# EAGLE library part MABSA (library con-hirschmann)
Dual SWITCH
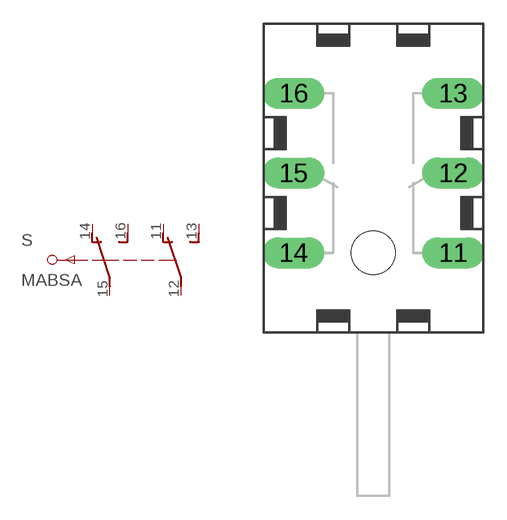
[diagram p10: symbol with the pads of MABSA; footprint MABSA]

Designator prefix S

## MABSA (OC_FARNELL: unknown; OC_NEWARK: unknown)  [MABSA]
11  11  pas
12  12  pas
13  13  pas
14  14  pas
15  15  pas
16  16  pas

## Footprint MABSA (pad centres in mm)
Dual SWITCH
drill 1.321 long: 11 5.08,-5.08; 12 5.08,0; 13 5.08,5.08; 14 -5.08,-5.08; 15 -5.08,0; 16 -5.08,5.08
hole 2.794 at 0,-5.08